# Altium footprint library 24LC128.PcbLib: 1 footprints
Each footprint in its own frame and in the unit in brackets; x right, y up, seen from the top. Pads: shape width x height; smd on the part's side, far side on the other; paste and mask are expansions set on the pad; w line width, h text height; cw(c..) or ccw(c..) is an arc to the next point about the centre after c.
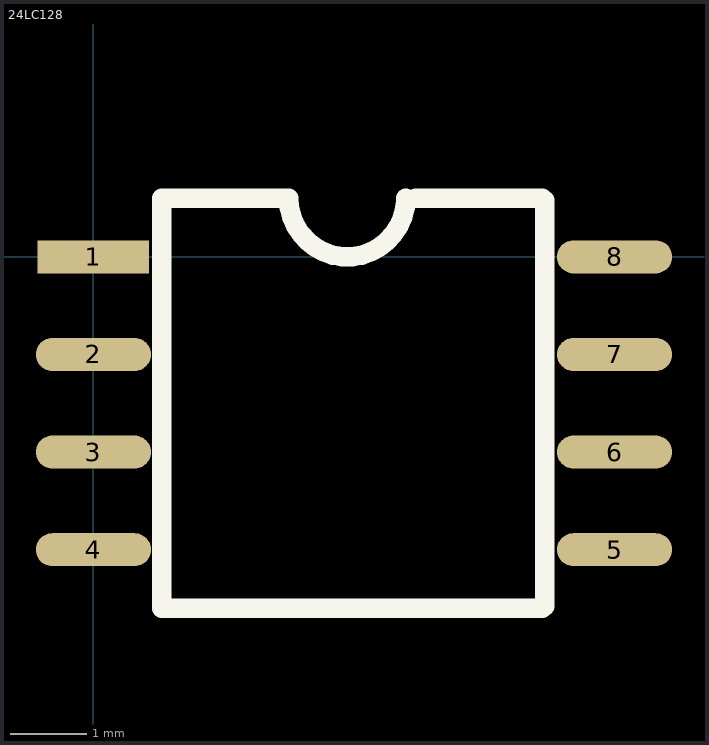
[diagram p0: the footprint, top view; thin cyan lines are the x and y axes]

## 24LC128 [mm] "208mil尺寸"
pads (8):
  rect 1.45x0.43 smd mask+0.05: 1(0,0)
  oval 1.5x0.43 smd mask+0.05: 2(0,-1.27) 3(0,-2.54) 4(0,-3.81) 5(6.78,-3.81) 6(6.78,-2.54) 7(6.78,-1.27) 8(6.78,0)
Top Overlay:
  lines w0.254: 4.064,0.762 cw(c3.302,0.762) 2.54,0.762 0.889,0.762 0.889,-4.572 5.842,-4.572 5.869,-4.545 5.869,0.735 5.842,0.762 4.191,0.762